# EAGLE library part TPS54380 (library TI)
3V to 6V Output Tracking Synchronous Buck PWM Switcher with Integrated FETs
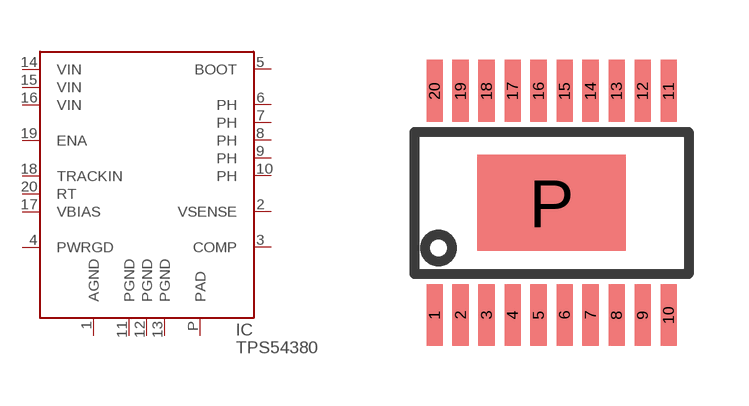
[diagram p20: symbol with the pads of MSOP20-P; footprint MSOP20-P]

Designator prefix IC

## TPS54380PWP  [MSOP20-P]
1  AGND  pwr
2  VSENSE
3  COMP
4  PWRGD
5  BOOT
6  PH  pwr
7  PH  pwr
8  PH  pwr
9  PH  pwr
10  PH  pwr
11  PGND  pwr
12  PGND  pwr
13  PGND  pwr
14  VIN  pwr
15  VIN  pwr
16  VIN  pwr
17  VBIAS
18  TRACKIN
19  ENA
20  RT
P  PAD

## Footprint MSOP20-P (pad centres in mm)
smd 0.4 x 1.55: 1 -2.925,-2.8; 2 -2.275,-2.8; 3 -1.625,-2.8; 4 -0.975,-2.8; 5 -0.325,-2.8; 6 0.325,-2.8; 7 0.975,-2.8; 8 1.625,-2.8; 9 2.275,-2.8; 10 2.925,-2.8; 11 2.925,2.8; 12 2.275,2.8; 13 1.625,2.8; 14 0.975,2.8; 15 0.325,2.8; 16 -0.325,2.8; 17 -0.975,2.8; 18 -1.625,2.8; 19 -2.275,2.8; 20 -2.925,2.8
smd 3.7 x 2.4: P 0,0